# Altium schematic symbol library XT60PW-F.SchLib: 1 symbol
Pins are listed as number, name and electrical type; pins without a type are passive.

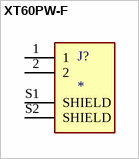
[diagram p0: symbol XT60PW-F]

## XT60PW-F
designator J?
Socket DC Supply Connector Female; MF: {'manufacturer': u'AMASS'}; MP: XT60PW-F; Value: *; Package: None; Price: None; Availability: Unavailable
footprint AMASS_XT60PW-F
pins: 1, 2, S1 SHIELD, S2 SHIELD